# Altium schematic symbol library KB-DRV5055.SchLib: 1 symbol
Pins are listed as number, name and electrical type; pins without a type are passive.

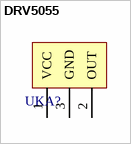
[diagram p0: symbol DRV5055]

## DRV5055
designator UKA?
pins: 1 VCC, 2 OUT, 3 GND